# EAGLE library part GP1F33RR (library sharp)
DUAL FIBER OPTIC RECEIVING MODULE FOR DIGITAL AUDIO EQUIPMENT; TTL Interface
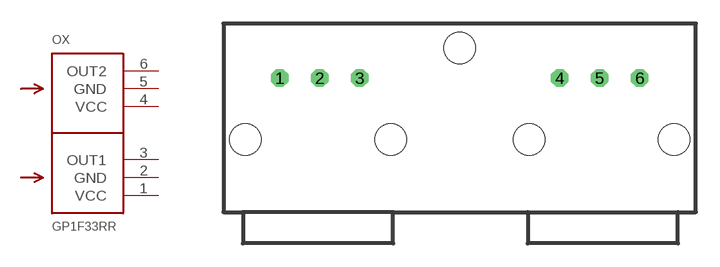
[diagram p1: symbol with the pads of GP1F33RR; footprint GP1F33RR]

Designator prefix OX

## GP1F33RR  [GP1F33RR]
1  VCC  pwr
2  GND  pwr
3  OUT1  out
4  VCC  pwr
5  GND  pwr
6  OUT2  out

## Footprint GP1F33RR (pad centres in mm)
drill 0.6 octagon: 1 -10.16,0; 2 -7.62,0; 3 -5.08,0; 4 7.62,0; 5 10.16,0; 6 12.7,0
hole 2 at -3.116,-3.889
hole 2 at 1.27,1.905
hole 2 at 5.677,-3.889
hole 2 at 14.864,-3.889
hole 2 at -12.324,-3.889